# EAGLE library part ARDUINO_PRO_MONI_DEEK_ROBOT (library Arduino_Pro_FP)
Footprint for Deek_robot Arduino Pro Mini
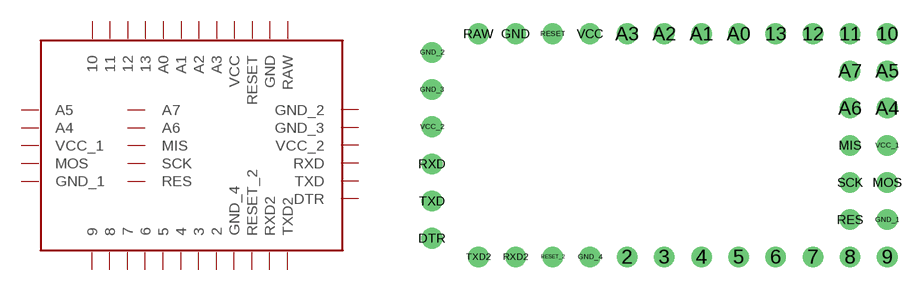
[diagram p0: symbol with the pads of DEEK_ARDUINO_PR_MINI; footprint DEEK_ARDUINO_PR_MINI]

Designator prefix -

## ARDUINO_PRO_MONI_DEEK_ROBOT  [DEEK_ARDUINO_PR_MINI]
2  2
3  3
4  4
5  5
6  6
7  7
8  8
9  9
10  10
11  11
12  12
13  13
A0  A0
A1  A1
A2  A2
A3  A3
A4  A4
A5  A5
A6  A6
A7  A7
DTR  DTR
GND  GND
GND_1  GND_1
GND_2  GND_2
GND_3  GND_3
GND_4  GND_4
MIS  MIS
MOS  MOS
RAW  RAW
RES  RES
RESET  RESET
RESET_2  RESET_2
RXD  RXD
RXD2  RXD2
SCK  SCK
TXD  TXD
TXD2  TXD2
VCC  VCC
VCC_1  VCC_1
VCC_2  VCC_2

## Footprint DEEK_ARDUINO_PR_MINI (pad centres in mm)
drill 0.9: 2 -2.54,-6.35; 3 0,-6.35; 4 2.54,-6.35; 5 5.08,-6.35; 6 7.62,-6.35; 7 10.16,-6.35; 8 12.7,-6.35; 9 15.24,-6.35; 10 15.24,8.89; 11 12.7,8.89; 12 10.16,8.89; 13 7.62,8.89; A0 5.08,8.89; A1 2.54,8.89; A2 0,8.89; A3 -2.54,8.89; A4 15.24,3.81; A5 15.24,6.35; A6 12.7,3.81; A7 12.7,6.35; DTR -15.875,-5.08; GND -10.16,8.89; GND_1 15.24,-3.81; GND_2 -15.875,7.62; GND_3 -15.875,5.08; GND_4 -5.08,-6.35; MIS 12.7,1.27; MOS 15.24,-1.27; RAW -12.7,8.89; RES 12.7,-3.81; RESET -7.62,8.89; RESET_2 -7.62,-6.35; RXD -15.875,0; RXD2 -10.16,-6.35; SCK 12.7,-1.27; TXD -15.875,-2.54; TXD2 -12.7,-6.35; VCC -5.08,8.89; VCC_1 15.24,1.27; VCC_2 -15.875,2.54